# Altium footprint library E-Switch_TL1105YF.PcbLib: 1 footprints
Each footprint in its own frame and in the unit in brackets; x right, y up, seen from the top. Pads: shape width x height; smd on the part's side, far side on the other; paste and mask are expansions set on the pad; w line width, h text height; cw(c..) or ccw(c..) is an arc to the next point about the centre after c.
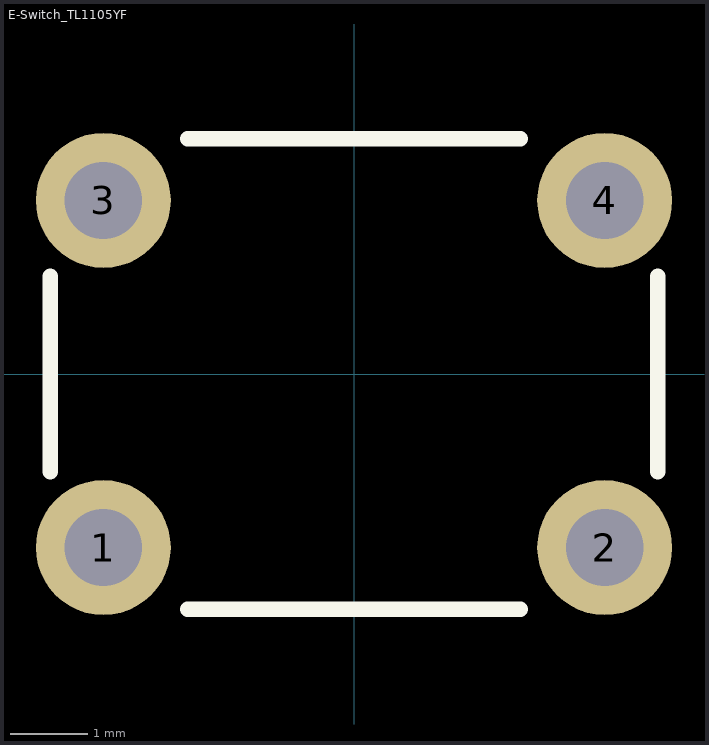
[diagram p0: the footprint, top view; thin cyan lines are the x and y axes]

## E-Switch_TL1105YF [mm]
pads (4):
  round 1.75 hole 1: 1(-3.25,-2.25) 2(3.25,-2.25) 3(-3.25,2.25) 4(3.25,2.25)
Top Overlay:
  lines w0.2: -3.937,-1.27 -3.937,1.27 ; -2.159,-3.048 2.159,-3.048 ; -2.159,3.048 2.159,3.048 ; 3.937,-1.27 3.937,1.27
3D body "TL1105YFxxxx.stp": height 16.32, standoff -3.53, extent -3.944,-3 3.944,3